# Altium integrated library VOLT_REGULATOR_AP63300WU-7.IntLib: 1 symbol
Pins are listed as number, name and electrical type; pins without a type are passive.

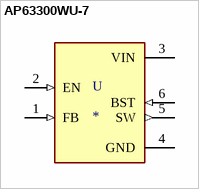
[diagram p0: symbol AP63300WU-7]

## AP63300WU-7
designator U
Buck Switching Regulator IC Positive Adjustable 0.8V 1 Output 3A SOT-23-6 Thin, TSOT-23-6; MP: AP63300WU-7; MF: Diodes Incorporated; SnapEDA_Link: https://www.snapeda.com/parts/AP63300WU-7/Diodes%20Inc./view-part/4221814/?ref=snap; Availability: Unavailable; DigiKey-Purchase-URL: https://snapeda.com/shop?store=DigiKey&id=4221814; Price: None; Value: *; Package: SOT-23-6 Diodes Incorporated
footprint SOT95P280X100-6N
pins: 1 FB (in), 2 EN (in), 3 VIN (power), 4 GND (power), 5 SW (out), 6 BST (in)